# Altium footprint library PcbLib1.PcbLib: 49 footprints (part 1 of 4)
Each footprint in its own frame and in the unit in brackets; x right, y up, seen from the top. Pads: shape width x height; smd on the part's side, far side on the other; paste and mask are expansions set on the pad; w line width, h text height; cw(c..) or ccw(c..) is an arc to the next point about the centre after c.
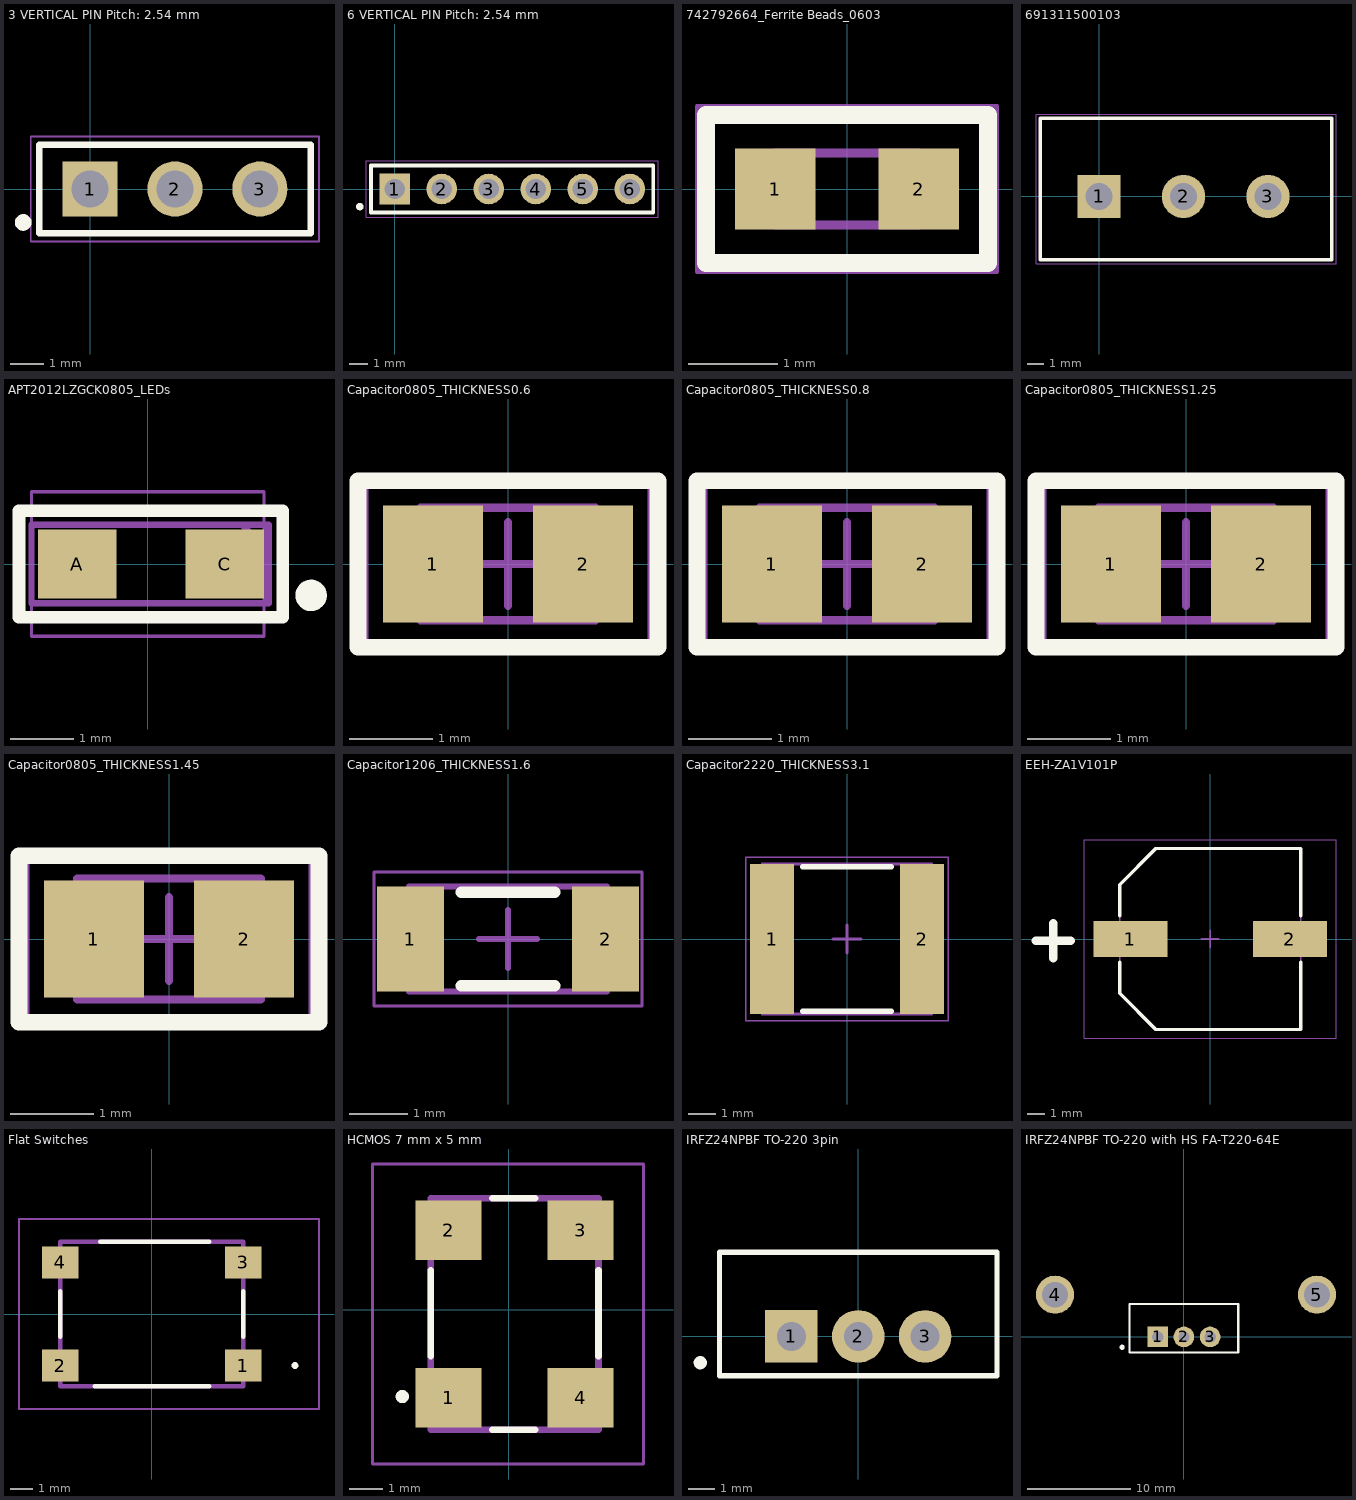
[diagram p0: the footprints below, top view; thin cyan lines are the x and y axes]

## 3 VERTICAL PIN Pitch: 2.54 mm [mm]
pads (3):
  rect 1.65x1.65 hole 1.1: 1(0,0)
  round 1.65 hole 1.1: 2(2.54,0) 3(5.08,0)
Top Overlay:
  circle w0.25: c-2,-1 r0.125
  lines w0.2: -1.52,-1.32 -1.52,1.32 6.6,1.32 6.6,-1.32 -1.52,-1.32
Mechanical 15:
  lines w0.1: -1.52,-1.32 -1.52,1.32 6.6,1.32 6.6,-1.32 -1.52,-1.32
Mechanical 20:
  lines w0.05: -1.77,-1.57 -1.77,1.57 6.85,1.57 6.85,-1.57 -1.77,-1.57
3D body "M20-9770346.stp": height 8.3, standoff -3.1, extent -1.27,-1.27 6.35,1.27

## 6 VERTICAL PIN Pitch: 2.54 mm [mm]
pads (6):
  rect 1.65x1.65 hole 1.1: 1(0,0)
  round 1.65 hole 1.1: 2(2.54,0) 3(5.08,0) 4(7.62,0) 5(10.16,0) 6(12.7,0)
Top Overlay:
  lines w0.2: -1.975,-0.95 ccw(c-1.875,-0.95) -1.775,-0.95 ccw(c-1.875,-0.95) -1.975,-0.95 ; -1.27,-1.27 -1.27,1.27 13.97,1.27 13.97,-1.27 -1.27,-1.27
Mechanical 15:
  lines w0.1: -1.27,-1.27 13.97,-1.27 13.97,1.27 -1.27,1.27
Mechanical 20:
  lines w0.05: -1.52,-1.52 14.22,-1.52 14.22,1.52 -1.52,1.52 -1.52,-1.52
3D body "M20-9990646.stp": height 8.64, standoff -3, extent -1.27,-1.27 13.97,1.27

## 742792664_Ferrite Beads_0603 [mm]
pads (2):
  rect 0.9x0.9 smd: 1(-0.8,0) 2(0.8,0)
Top Overlay:
  lines w0.2: -1.575,-0.825 0.75,-0.825 1.575,-0.825 1.575,0.825 0.75,0.825 -1.575,0.825 -1.575,-0.825
Mechanical 15:
  lines w0.1: -0.8,-0.4 -0.8,0.4 0.8,0.4 0.8,-0.4 -0.8,-0.4
Mechanical 20:
  lines w0.05: -1.675,-0.925 -1.675,0.925 1.675,0.925 1.675,-0.925 -1.675,-0.925
3D body "742792664.stp": height 0.8, standoff 0, extent -0.8,-0.4 0.8,0.4

## 691311500103 [mm]
pads (3):
  rect 2.6x2.6 hole 1.6: 1(0,0)
  round 2.6 hole 1.6: 2(5.08,0) 3(10.16,0)
Top Overlay:
  lines w0.2: -3.54,-3.8 -3.54,4.7 14,4.7 14,-3.8 -3.54,-3.8
Mechanical 15:
  lines w0.1: -3.54,-3.8 -3.54,4.7 14,4.7 14,-3.8 -3.54,-3.8
Mechanical 20:
  lines w0.05: -3.79,-4.05 -3.79,4.95 14.25,4.95 14.25,-4.05 -3.79,-4.05
3D body "691311500103_Download_STP_691311500103_rev1.stp": height 12, standoff -4, extent -3.52,-3.85 13.72,4.65
3D body "691351500003.stp": height 21.45, standoff 3.25, extent -2.54,-4.45 12.7,10.65

## APT2012LZGCK0805_LEDs [mm]
pads (2):
  rect 1.25x1.1 smd: A(-1.125,0) C(1.225,0)
Top Overlay:
  circle w0.25: c2.6,-0.5 r0.125
  lines w0.2: -2.05,-0.85 0.95,-0.85 2.15,-0.85 2.15,0.85 0.925,0.85 -2.05,0.85 -2.05,-0.85
Mechanical 15:
  lines w0.1: 1.5,0.625 1.917,0.208 ; -1.85,-0.625 -1.85,0.625 1.925,0.625 1.925,-0.625 -1.85,-0.625
Mechanical 20:
  lines w0.05: -1.85,-1.15 -1.85,1.15 1.85,1.15 1.85,-1.15 -1.85,-1.15
3D body "APT2012LZGCK--3DModel-STEP-510211.STEP": height 0.75, standoff 0, extent -1,-0.625 1,0.625

## Capacitor0805_THICKNESS0.6 [mm] "Chip Capacitor, 2-Leads, Body 2,00x1,25mm, IPC Medium Density"
height 0.6
pads (2):
  rect 1.2x1.4 smd: 1(-0.9,0) 2(0.9,0)
Top Overlay:
  lines w0.2: -1.8,-1 -1.8,1 1.8,1 1.8,-1 -1.8,-1
Top Assembly:
  lines w0.1: -1.05,-0.675 1.05,-0.675 1.05,0.675 -1.05,0.675 -1.05,-0.675
Mechanical 15:
  lines w0.05: -1.7,-0.95 1.7,-0.95 1.7,0.95 -1.7,0.95 -1.7,-0.95
  lines w0.1: -0.5,0 0.5,0 ; 0,-0.5 0,0.5
3D body "CAPC2012X06N.step": height 0.6, standoff 0, extent -1.05,-0.675 1.05,0.675

## Capacitor0805_THICKNESS0.8 [mm] "Chip Capacitor, 2-Leads, Body 2,00x1,25mm, IPC Medium Density"
height 0.8
pads (2):
  rect 1.2x1.4 smd: 1(-0.9,0) 2(0.9,0)
Top Overlay:
  lines w0.2: -1.8,-1 1.8,-1 1.8,1 -1.8,1 -1.8,-1
Mechanical 13:
  lines w0.1: -1.05,-0.675 1.05,-0.675 1.05,0.675 -1.05,0.675 -1.05,-0.675
Mechanical 15:
  lines w0.05: -1.7,-0.95 1.7,-0.95 1.7,0.95 -1.7,0.95 -1.7,-0.95
  lines w0.1: -0.5,0 0.5,0 ; 0,-0.5 0,0.5
3D body "CAPC2012X08N.step": height 0.8, standoff 0, extent -1.05,-0.675 1.05,0.675

## Capacitor0805_THICKNESS1.25 [mm] "Chip Capacitor, 2-Leads, Body 2,00x1,25mm, IPC Medium Density"
height 1.25
pads (2):
  rect 1.2x1.4 smd: 1(-0.9,0) 2(0.9,0)
Top Overlay:
  lines w0.2: -1.8,-1 1.8,-1 1.8,1 -1.8,1 -1.8,-1
Top Assembly:
  lines w0.1: -1.05,-0.675 1.05,-0.675 1.05,0.675 -1.05,0.675 -1.05,-0.675
Mechanical 15:
  lines w0.05: -1.7,-0.95 1.7,-0.95 1.7,0.95 -1.7,0.95 -1.7,-0.95
  lines w0.1: -0.5,0 0.5,0 ; 0,-0.5 0,0.5
3D body "CAPC2012X12N.step": height 1.25, standoff 0, extent -1.05,-0.675 1.05,0.675

## Capacitor0805_THICKNESS1.45 [mm] "Chip Capacitor, 2-Leads, Body 2,00x1,25mm, IPC Medium Density"
height 1.45
pads (2):
  rect 1.2x1.4 smd: 1(-0.9,0) 2(0.9,0)
Top Overlay:
  lines w0.2: -1.8,-1 1.8,-1 1.8,1 -1.8,1 -1.8,-1
Mechanical 13:
  lines w0.1: -1.1,-0.725 1.1,-0.725 1.1,0.725 -1.1,0.725 -1.1,-0.725
Mechanical 15:
  lines w0.05: -1.7,-1 1.7,-1 1.7,1 -1.7,1 -1.7,-1
  lines w0.1: -0.5,0 0.5,0 ; 0,-0.5 0,0.5
3D body "CAPC2012X14N.step": height 1.45, standoff 0, extent -1.1,-0.725 1.1,0.725

## Capacitor1206_THICKNESS1.6 [mm] "Chip Capacitor, 2-Leads, Body 3,20x1,60mm, IPC Medium Density"
height 1.6
pads (2):
  rect 1.15x1.8 smd: 1(-1.675,0) 2(1.675,0)
Top Overlay:
  lines w0.2: -0.8,-0.8 0.8,-0.8 ; -0.8,0.8 0.8,0.8
Top Assembly:
  lines w0.1: -1.7,-0.9 1.7,-0.9 1.7,0.9 -1.7,0.9 -1.7,-0.9
Mechanical 15:
  lines w0.05: -2.3,-1.15 2.3,-1.15 2.3,1.15 -2.3,1.15 -2.3,-1.15
  lines w0.1: -0.5,0 0.5,0 ; 0,-0.5 0,0.5
3D body "CAPC3216X16N.step": height 1.6, standoff 0, extent -1.7,-0.9 1.7,0.9

## Capacitor2220_THICKNESS3.1 [mm] "Chip Capacitor, 2-Leads, Body 5,70x5,00mm, IPC Medium Density"
height 3.1
pads (2):
  rect 1.6x5.4 smd: 1(-2.7,0) 2(2.7,0)
Top Overlay:
  lines w0.2: -1.6,-2.6 1.6,-2.6 ; -1.6,2.6 1.6,2.6
Top Assembly:
  lines w0.1: -3.05,-2.7 -3.05,2.7 3.05,2.7 3.05,-2.7 -3.05,-2.7
Mechanical 15:
  lines w0.05: -3.65,-2.95 -3.65,2.95 3.65,2.95 3.65,-2.95 -3.65,-2.95
  lines w0.1: -0.5,0 0.5,0 ; 0,-0.5 0,0.5
3D body "CAPC5750X31N.step": height 3.1, standoff 0, extent -3.05,-2.7 3.05,2.7

## EEH-ZA1V101P [mm] "Aluminum Electrolytic Capacitor, Body 10,30x10,30x10,50mm, IPC Medium Density"
height 10.5
pads (2):
  rect 4.3x2.1 smd: 1(-4.625,0) 2(4.625,0)
Top Overlay:
  lines w0.2: -5.25,-1.35 -5.25,-3.15 -3.15,-5.25 5.25,-5.25 5.25,-1.35 ; -5.25,1.35 -5.25,3.15 -3.15,5.25 5.25,5.25 5.25,1.35
  lines w0.5: -10.1,-0.1 -8.1,-0.1 ; -9.1,-1.1 -9.1,0.9
Mechanical 13:
  lines w0.1: -5.25,-3.15 -3.15,-5.25 5.25,-5.25 5.25,5.25 -3.15,5.25 -5.25,3.15 -5.25,-3.15
Mechanical 15:
  lines w0.05: -7.3,-5.75 -7.3,5.75 7.3,5.75 7.3,-5.75 -7.3,-5.75
  lines w0.1: -0.5,0 0.5,0 ; 0,-0.5 0,0.5
3D body "CAPAE120103X105N.step": height 10.5, standoff 0, extent -6,-5.25 6,5.25

## Flat Switches [mm]
pads (4):
  rect 1.6x1.4 smd: 1(4,-2.25) 2(-4,-2.25) 3(4,2.25) 4(-4,2.25)
Top Overlay:
  lines w0.1: -4,-1 -4,1 ; -2.5,-3.15 2.5,-3.15 ; -2.25,3.15 2.5,3.15 ; 4,-1 4,1
  lines w0.2: -4,-1 -4,1 ; -2.5,-3.15 2.5,-3.15 ; -2.25,3.15 2.5,3.15 ; 4,-1 4,1 ; 6.25,-2.3 ccw(c6.25,-2.25) 6.25,-2.2 ; 6.25,-2.3 cw(c6.25,-2.25) 6.25,-2.2 ; 6.25,-2.3 ccw(c6.25,-2.25) 6.25,-2.2
Mechanical 15:
  lines w0.2: -4,-3.15 4,-3.15 4,3.15 -4,3.15 -4,-3.15
Mechanical 20:
  lines w0.1: -5.8,-4.15 7.3,-4.15 7.3,4.15 -5.8,4.15 -5.8,-4.15
3D body "B3FS-1012P.stp": height 4.38, standoff 0, extent -4,-3.15 4,3.15

## HCMOS 7 mm x 5 mm [mm]
pads (4):
  rect 2x1.8 smd: 1(-1.825,-2.665) 2(-1.825,2.415) 3(2.175,2.415) 4(2.175,-2.665)
Top Overlay:
  lines w0.2: -2.365,-1.4 -2.365,1.2 ; -0.5,-3.625 0.8,-3.625 ; -0.5,3.375 0.8,3.375 ; 2.715,-1.4 2.715,1.2 ; -3.225,-2.725 cw(c-3.225,-2.625) -3.225,-2.525 cw(c-3.225,-2.625) -3.225,-2.725
Mechanical 13:
  lines w0.2: -2.365,-3.625 2.715,-3.625 2.715,3.375 -2.365,3.375 -2.365,-3.625
Mechanical 15:
  lines w0.1: -4.125,-4.665 4.075,-4.665 4.075,4.415 -4.125,4.415 -4.125,-4.665
3D body "User Library-CTS-CB3.STEP": height 1.71, standoff 0, extent -2.325,-3.625 2.675,3.375

## IRFZ24NPBF TO-220 3pin [mm]
pads (3):
  rect 2x2 hole 1.1: 1(-2.54,0)
  round 2 hole 1.1: 2(0,0) 3(2.54,0)
Top Overlay:
  circle w0.25: c-6,-1 r0.125
  lines w0.2: -5.27,-1.5 5.27,-1.5 5.27,3.2 -5.27,3.2 -5.27,-1.5
Mechanical 15:
  lines w0.1: -5.27,3.2 5.27,3.2 5.27,-1.5
3D body "IRFZ24NPBF.stp": height 29.85, standoff -6.51, extent -5.208,-1.49 5.208,3.2

## IRFZ24NPBF TO-220 with HS FA-T220-64E [mm]
pads (5):
  rect 2x2 hole 1.1: 1(-2.54,0)
  round 2 hole 1.1: 2(0,0) 3(2.54,0)
  round 3.7 hole 2.5 unplated: 4(-12.5,4.1) 5(12.9,4.1)
Top Overlay:
  circle w0.25: c-6,-1 r0.125
  lines w0.2: -5.27,-1.5 -5.27,3.2 5.27,3.2 5.27,-1.5 -5.27,-1.5
Mechanical 15:
  lines w0.1: -5.27,3.2 5.27,3.2 5.27,-1.5
3D body "IRFZ24NPBF.stp": height 28.84, standoff -7.51, extent -5.207,-1.49 5.208,3.2
3D body "User Library-OHMITE_FA-T220-64E.step": height 63.5, standoff -3.8, extent -20.6,-8.5 21,16.631